# EAGLE library part 254 (library microsdadafruit)
MICROSD CARD BREAKOUT 5V OR 3V Check availability <https://pricing.snapeda.com/parts/254/Adafruit/view-part?ref=eda>
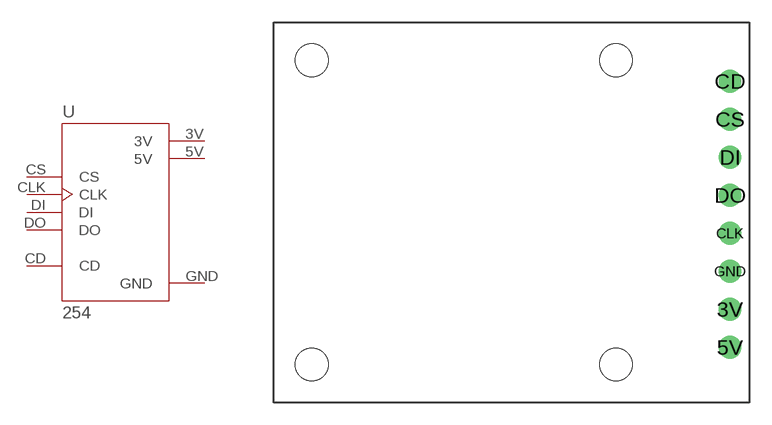
[diagram p0: symbol with the pads of MODULE_254; footprint MODULE_254]

Designator prefix U

## 254 (Availability: In Stock; Description: MICROSD CARD BREAKOUT 5V OR 3V; MF: Adafruit; MP: 254; Package: None; Price: None; Purchase-URL: https://pricing.snapeda.com/search/part/254/?ref=eda)  [MODULE_254]
3V  3V  pwr
5V  5V  pwr
CD  CD
CLK  CLK  in
CS  CS  in
DI  DI  in
DO  DO  out
GND  GND  pwr

## Footprint MODULE_254 (pad centres in mm)
drill 1.02: 3V 14.605,-6.477; 5V 14.605,-9.017; CD 14.605,8.763; CLK 14.605,-1.397; CS 14.605,6.223; DI 14.605,3.683; DO 14.605,1.143; GND 14.605,-3.937
hole 2.2 at -13.335,10.16
hole 2.2 at 6.985,10.16
hole 2.2 at 6.985,-10.16
hole 2.2 at -13.335,-10.16